# Altium footprint library Connector_Audio.PcbLib: 212 footprints (part 3 of 14)
Each footprint in its own frame and in the unit in brackets; x right, y up, seen from the top. Pads: shape width x height; smd on the part's side, far side on the other; paste and mask are expansions set on the pad; w line width, h text height; cw(c..) or ccw(c..) is an arc to the next point about the centre after c.
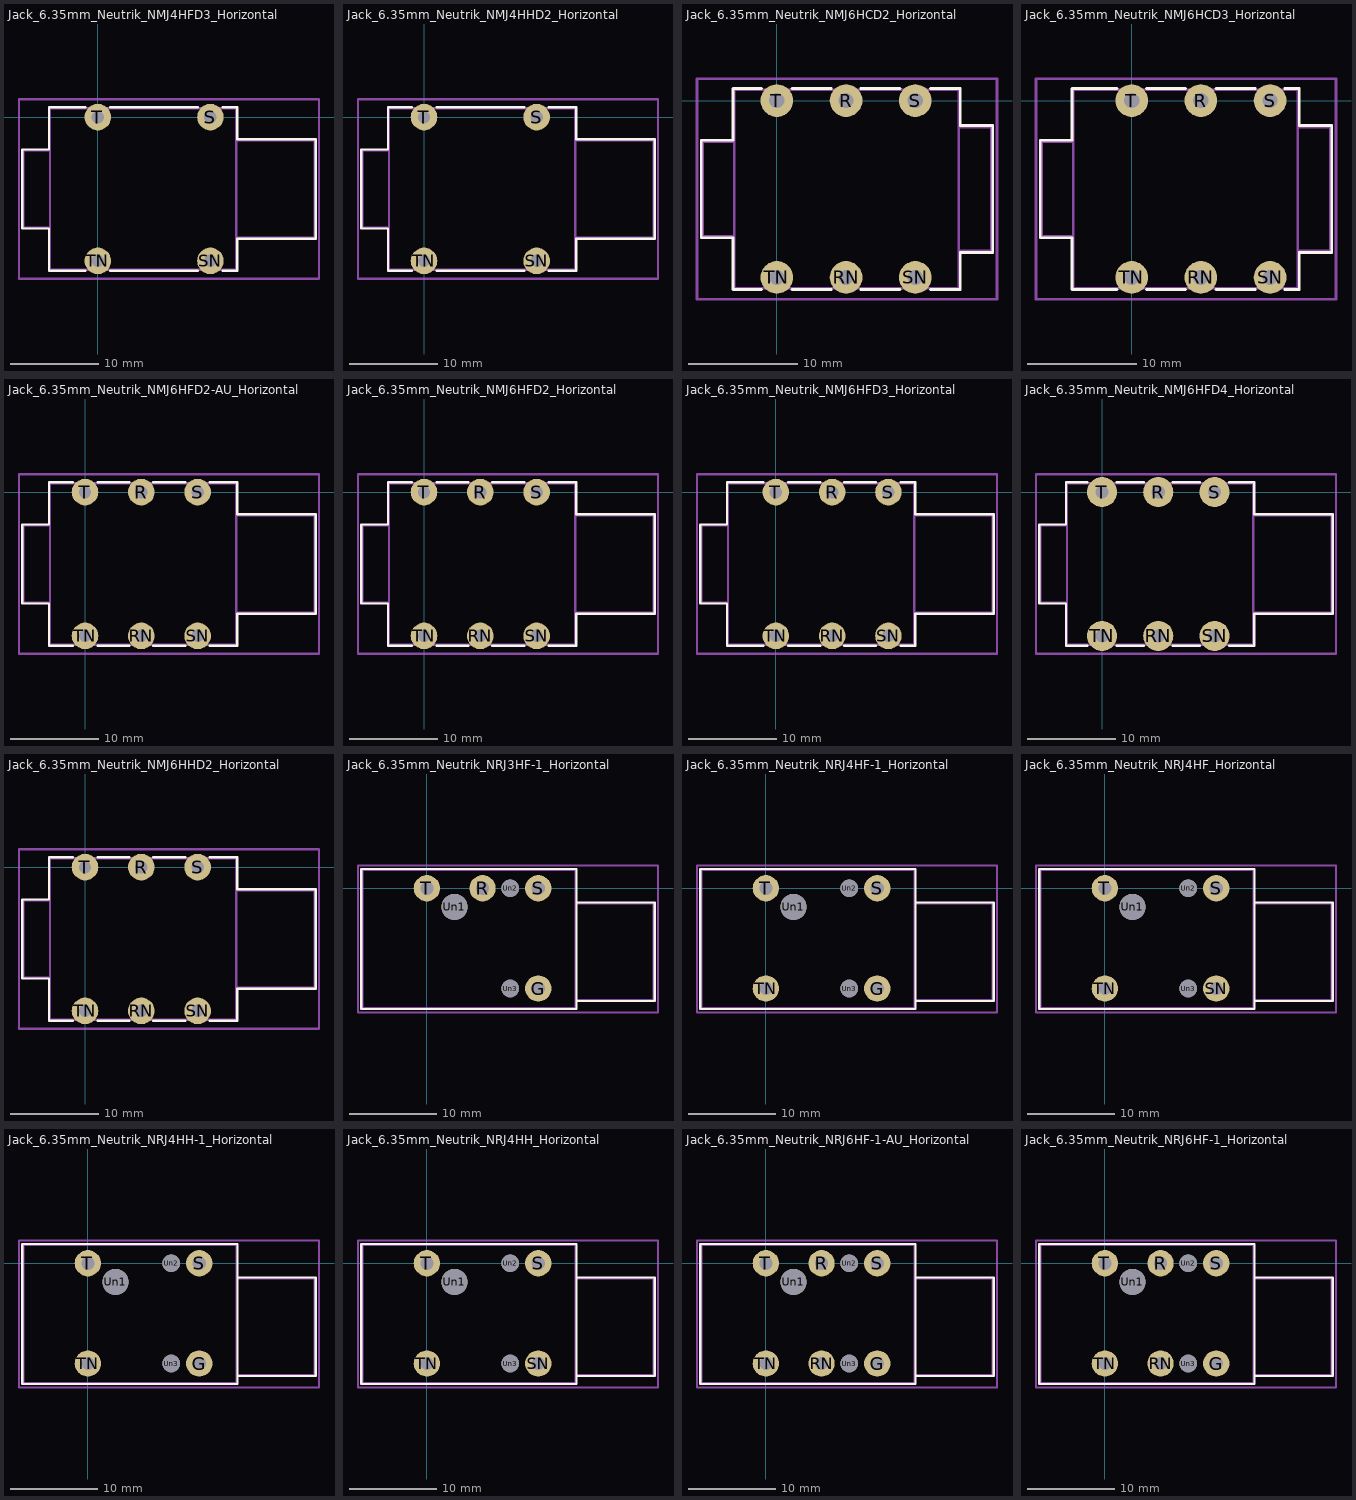
[diagram p2: the footprints below, top view; thin cyan lines are the x and y axes]

## Jack_6.35mm_Neutrik_NMJ4HFD3_Horizontal [mm]
pads (4):
  round 3 hole 1.4: S(12.7,0) SN(12.7,-16.23) T(0,0) TN(0,-16.23)
F.SilkS:
  lines w0.254: -8.52,-12.585 -5.52,-12.585 -5.52,-17.335 -1.4,-17.335 ; -8.52,-12.545 -8.52,-3.645 -5.52,-3.645 -5.52,1.105 -1.4,1.105 ; 1.4,-17.335 11.3,-17.335 ; 1.4,1.105 11.3,1.105 ; 14.1,-17.335 15.72,-17.335 15.72,-13.735 24.57,-13.735 24.57,-2.495 15.72,-2.495 15.72,1.105 14.1,1.105
Top Assembly:
  lines w0.254: -5.4,-12.465 -8.4,-12.465 -8.4,-3.765 -5.4,-3.765 ; 15.6,-13.615 24.45,-13.615 24.45,-2.615 15.6,-2.615 ; -5.4,-17.215 15.6,-17.215 15.6,0.985 -5.4,0.985 -5.4,-17.215
  text "'.Designator'" at 2.303,-8.955 h1
Top Courtyard:
  lines w0.254: -8.9,-18.23 24.95,-18.23 24.95,2 -8.9,2 -8.9,-18.23
Top Designator:
  text ".Designator" at 0.407,-8.623 h1.52

## Jack_6.35mm_Neutrik_NMJ4HHD2_Horizontal [mm]
pads (4):
  round 3 hole 1.4: S(12.7,0) SN(12.7,-16.23) T(0,0) TN(0,-16.23)
F.SilkS:
  lines w0.254: -7.07,-12.585 -4.07,-12.585 -4.07,-17.335 -1.35,-17.335 ; -7.07,-12.545 -7.07,-3.645 -4.07,-3.645 -4.07,1.105 -1.35,1.105 ; 1.4,-17.335 11.3,-17.335 ; 1.4,1.105 11.3,1.105 ; 14.05,-17.335 17.17,-17.335 17.17,-13.735 26.02,-13.735 26.02,-2.495 17.17,-2.495 17.17,1.105 14.05,1.105
Top Assembly:
  lines w0.254: -3.95,-12.465 -6.95,-12.465 -6.95,-3.765 -3.95,-3.765 ; 17.05,-13.615 25.9,-13.615 25.9,-2.615 17.05,-2.615 ; -3.95,-17.215 17.05,-17.215 17.05,0.985 -3.95,0.985 -3.95,-17.215
  text "'.Designator'" at 2.303,-8.955 h1
Top Courtyard:
  lines w0.254: -7.45,-18.23 26.4,-18.23 26.4,2 -7.45,2 -7.45,-18.23
Top Designator:
  text ".Designator" at 1.857,-8.623 h1.52

## Jack_6.35mm_Neutrik_NMJ6HCD2_Horizontal [mm]
pads (6):
  round 3 hole 1.4: R(6.35,0) RN(6.35,-16.23) S(12.7,0) SN(12.7,-16.23) T(0,0) TN(0,-16.23)
F.SilkS:
  lines w0.254: -6.95,-12.585 -4.03,-12.585 -4.03,-17.335 -1.4,-17.335 ; -6.95,-12.545 -6.95,-3.645 -4.03,-3.645 -4.03,1.105 -1.4,1.105 ; 1.4,-17.335 5,-17.335 ; 1.4,1.105 5,1.105 ; 7.7,-17.335 11.3,-17.335 ; 7.7,1.105 11.3,1.105 ; 14.1,-17.335 16.82,-17.335 16.82,-13.935 19.82,-13.935 19.82,-2.295 16.82,-2.295 16.82,1.105 14.1,1.105
Top Assembly:
  lines w0.254: -3.91,-12.465 -6.83,-12.465 -6.83,-3.765 -3.91,-3.765 ; 16.7,-13.815 19.7,-13.815 19.7,-2.415 16.7,-2.415 ; -3.91,-17.215 16.7,-17.215 16.7,0.985 -3.91,0.985 -3.91,-17.215
  text "'.Designator'" at 2.303,-8.955 h1
Top Courtyard:
  lines w0.254: -7.33,-18.23 20.2,-18.23 20.2,2 -7.33,2 -7.33,-18.23
Top Designator:
  text ".Designator" at -1.183,-8.623 h1.52

## Jack_6.35mm_Neutrik_NMJ6HCD3_Horizontal [mm]
pads (6):
  round 3 hole 1.4: R(6.35,0) RN(6.35,-16.23) S(12.7,0) SN(12.7,-16.23) T(0,0) TN(0,-16.23)
F.SilkS:
  lines w0.254: -8.4,-12.585 -5.48,-12.585 -5.48,-17.335 -1.35,-17.335 ; -8.4,-12.545 -8.4,-3.645 -5.48,-3.645 -5.48,1.105 -1.35,1.105 ; 1.35,-17.335 4.95,-17.335 ; 1.35,1.105 4.95,1.105 ; 7.75,-17.335 11.35,-17.335 ; 7.75,1.105 11.35,1.105 ; 14.05,-17.335 15.37,-17.335 15.37,-13.935 18.37,-13.935 18.37,-2.295 15.37,-2.295 15.37,1.105 14.05,1.105
Top Assembly:
  lines w0.254: -5.36,-12.465 -8.28,-12.465 -8.28,-3.765 -5.36,-3.765 ; 15.25,-13.815 18.25,-13.815 18.25,-2.415 15.25,-2.415 ; -5.36,-17.215 15.25,-17.215 15.25,0.985 -5.36,0.985 -5.36,-17.215
  text "'.Designator'" at 2.303,-8.955 h1
Top Courtyard:
  lines w0.254: -8.78,-18.23 18.75,-18.23 18.75,2 -8.78,2 -8.78,-18.23
Top Designator:
  text ".Designator" at -2.633,-8.623 h1.52

## Jack_6.35mm_Neutrik_NMJ6HFD2-AU_Horizontal [mm]
pads (6):
  round 3 hole 1.4: R(6.35,0) RN(6.35,-16.23) S(12.7,0) SN(12.7,-16.23) T(0,0) TN(0,-16.23)
F.SilkS:
  lines w0.254: -7.07,-12.585 -4.07,-12.585 -4.07,-17.335 -1.35,-17.335 ; -7.07,-12.545 -7.07,-3.645 -4.07,-3.645 -4.07,1.105 -1.35,1.105 ; 1.4,-17.335 5,-17.335 ; 1.4,1.105 5,1.105 ; 7.7,-17.335 11.3,-17.335 ; 7.7,1.105 11.3,1.105 ; 14.05,-17.335 17.17,-17.335 17.17,-13.735 26.02,-13.735 26.02,-2.495 17.17,-2.495 17.17,1.105 14.05,1.105
Top Assembly:
  lines w0.254: -3.95,-12.465 -6.95,-12.465 -6.95,-3.765 -3.95,-3.765 ; 17.05,-13.615 25.9,-13.615 25.9,-2.615 17.05,-2.615 ; -3.95,-17.215 17.05,-17.215 17.05,0.985 -3.95,0.985 -3.95,-17.215
  text "'.Designator'" at 2.303,-8.955 h1
Top Courtyard:
  lines w0.254: -7.45,-18.23 26.4,-18.23 26.4,2 -7.45,2 -7.45,-18.23
Top Designator:
  text ".Designator" at 1.857,-8.623 h1.52

## Jack_6.35mm_Neutrik_NMJ6HFD2_Horizontal [mm]
pads (6):
  round 3 hole 1.4: R(6.35,0) RN(6.35,-16.23) S(12.7,0) SN(12.7,-16.23) T(0,0) TN(0,-16.23)
F.SilkS:
  lines w0.254: -7.07,-12.585 -4.07,-12.585 -4.07,-17.335 -1.35,-17.335 ; -7.07,-12.545 -7.07,-3.645 -4.07,-3.645 -4.07,1.105 -1.35,1.105 ; 1.4,-17.335 5,-17.335 ; 1.4,1.105 5,1.105 ; 7.7,-17.335 11.3,-17.335 ; 7.7,1.105 11.3,1.105 ; 14.05,-17.335 17.17,-17.335 17.17,-13.735 26.02,-13.735 26.02,-2.495 17.17,-2.495 17.17,1.105 14.05,1.105
Top Assembly:
  lines w0.254: -3.95,-12.465 -6.95,-12.465 -6.95,-3.765 -3.95,-3.765 ; 17.05,-13.615 25.9,-13.615 25.9,-2.615 17.05,-2.615 ; -3.95,-17.215 17.05,-17.215 17.05,0.985 -3.95,0.985 -3.95,-17.215
  text "'.Designator'" at 2.303,-8.955 h1
Top Courtyard:
  lines w0.254: -7.45,-18.23 26.4,-18.23 26.4,2 -7.45,2 -7.45,-18.23
Top Designator:
  text ".Designator" at 1.857,-8.623 h1.52

## Jack_6.35mm_Neutrik_NMJ6HFD3_Horizontal [mm]
pads (6):
  round 3 hole 1.4: R(6.35,0) RN(6.35,-16.23) S(12.7,0) SN(12.7,-16.23) T(0,0) TN(0,-16.23)
F.SilkS:
  lines w0.254: -8.52,-12.585 -5.52,-12.585 -5.52,-17.335 -1.4,-17.335 ; -8.52,-12.545 -8.52,-3.645 -5.52,-3.645 -5.52,1.105 -1.4,1.105 ; 1.4,-17.335 5,-17.335 ; 1.4,1.105 5,1.105 ; 7.7,-17.335 11.3,-17.335 ; 7.7,1.105 11.3,1.105 ; 14.1,-17.335 15.72,-17.335 15.72,-13.735 24.57,-13.735 24.57,-2.495 15.72,-2.495 15.72,1.105 14.1,1.105
Top Assembly:
  lines w0.254: -5.4,-12.465 -8.4,-12.465 -8.4,-3.765 -5.4,-3.765 ; 15.6,-13.615 24.45,-13.615 24.45,-2.615 15.6,-2.615 ; -5.4,-17.215 15.6,-17.215 15.6,0.985 -5.4,0.985 -5.4,-17.215
  text "'.Designator'" at 2.303,-8.955 h1
Top Courtyard:
  lines w0.254: -8.9,-18.23 24.95,-18.23 24.95,2 -8.9,2 -8.9,-18.23
Top Designator:
  text ".Designator" at 0.407,-8.623 h1.52

## Jack_6.35mm_Neutrik_NMJ6HFD4_Horizontal [mm]
pads (6):
  round 3.4 hole 1.5: R(6.35,0) RN(6.35,-16.23) S(12.7,0) SN(12.7,-16.23) T(0,0) TN(0,-16.23)
F.SilkS:
  lines w0.254: -7.07,-12.585 -4.07,-12.585 -4.07,-17.335 -1.65,-17.335 ; -7.07,-12.545 -7.07,-3.645 -4.07,-3.645 -4.07,1.105 -1.65,1.105 ; 1.65,-17.335 4.75,-17.335 ; 1.65,1.105 4.75,1.105 ; 7.95,-17.335 11.05,-17.335 ; 7.95,1.105 11.05,1.105 ; 14.35,-17.335 17.17,-17.335 17.17,-13.735 26.02,-13.735 26.02,-2.495 17.17,-2.495 17.17,1.105 14.35,1.105
Top Assembly:
  lines w0.254: -3.95,-12.465 -6.95,-12.465 -6.95,-3.765 -3.95,-3.765 ; 17.05,-13.615 25.9,-13.615 25.9,-2.615 17.05,-2.615 ; -3.95,-17.215 -3.95,0.985 17.05,0.985 17.05,-17.215 -3.95,-17.215
  text "'.Designator'" at 2.303,-8.955 h1
Top Courtyard:
  lines w0.254: -7.45,-18.23 -7.45,2 26.4,2 26.4,-18.23 -7.45,-18.23
Top Designator:
  text ".Designator" at 1.857,-8.623 h1.52

## Jack_6.35mm_Neutrik_NMJ6HHD2_Horizontal [mm]
pads (6):
  round 3 hole 1.4: R(6.35,0) RN(6.35,-16.23) S(12.7,0) SN(12.7,-16.23) T(0,0) TN(0,-16.23)
F.SilkS:
  lines w0.254: -7.07,-12.585 -4.07,-12.585 -4.07,-17.335 -1.35,-17.335 ; -7.07,-12.545 -7.07,-3.645 -4.07,-3.645 -4.07,1.105 -1.35,1.105 ; 1.4,-17.335 5,-17.335 ; 1.4,1.105 5,1.105 ; 7.7,-17.335 11.3,-17.335 ; 7.7,1.105 11.3,1.105 ; 14.05,-17.335 17.17,-17.335 17.17,-13.735 26.02,-13.735 26.02,-2.495 17.17,-2.495 17.17,1.105 14.05,1.105
Top Assembly:
  lines w0.254: -3.95,-12.465 -6.95,-12.465 -6.95,-3.765 -3.95,-3.765 ; 17.05,-13.615 25.9,-13.615 25.9,-2.615 17.05,-2.615 ; -3.95,-17.215 17.05,-17.215 17.05,0.985 -3.95,0.985 -3.95,-17.215
  text "'.Designator'" at 2.303,-8.955 h1
Top Courtyard:
  lines w0.254: -7.45,-18.23 26.4,-18.23 26.4,2 -7.45,2 -7.45,-18.23
Top Designator:
  text ".Designator" at 1.857,-8.623 h1.52

## Jack_6.35mm_Neutrik_NRJ3HF-1_Horizontal [mm]
pads (7):
  round 3 hole 1.5: G(12.7,-11.43) R(6.35,0) S(12.7,0) T(0,0)
  round 3 hole 3: Un1(3.15,-2.13)
  round 2 hole 2: Un2(9.5,0) Un3(9.5,-11.43)
F.SilkS:
  lines w0.254: 17.07,-12.85 25.97,-12.85 25.97,-1.61 17.07,-1.61 ; -7.47,-13.78 17.07,-13.78 17.07,2.21 -7.47,2.21 -7.47,-13.78
Top Assembly:
  lines w0.254: 16.95,-12.73 25.85,-12.73 25.85,-1.73 16.95,-1.73 ; -7.35,-13.66 16.95,-13.66 16.95,2.09 -7.35,2.09 -7.35,-13.66
  text "'.Designator'" at 2.303,-6.555 h1
Top Courtyard:
  lines w0.254: -7.85,-14.16 26.35,-14.16 26.35,2.59 -7.85,2.59 -7.85,-14.16
Top Designator:
  text ".Designator" at 1.632,-6.293 h1.52
Dwgs.User:
  lines w0.254: 16.95,-13.66 16.95,2.09

## Jack_6.35mm_Neutrik_NRJ4HF-1_Horizontal [mm]
pads (7):
  round 3 hole 1.5: G(12.7,-11.43) S(12.7,0) T(0,0) TN(0,-11.43)
  round 3 hole 3: Un1(3.15,-2.13)
  round 2 hole 2: Un2(9.5,0) Un3(9.5,-11.43)
F.SilkS:
  lines w0.254: 17.07,-12.85 25.97,-12.85 25.97,-1.61 17.07,-1.61 ; -7.47,-13.78 -7.47,2.21 17.07,2.21 17.07,-13.78 -7.47,-13.78
Top Assembly:
  lines w0.254: 16.95,-12.73 25.85,-12.73 25.85,-1.73 16.95,-1.73 ; -7.35,-13.66 -7.35,2.09 16.95,2.09 16.95,-13.66 -7.35,-13.66
  text "'.Designator'" at 2.303,-6.555 h1
Top Courtyard:
  lines w0.254: -7.85,-14.16 -7.85,2.59 26.35,2.59 26.35,-14.16 -7.85,-14.16
Top Designator:
  text ".Designator" at 1.632,-6.293 h1.52
Dwgs.User:
  lines w0.254: 16.95,-13.66 16.95,2.09

## Jack_6.35mm_Neutrik_NRJ4HF_Horizontal [mm]
pads (7):
  round 3 hole 1.5: S(12.7,0) SN(12.7,-11.43) T(0,0) TN(0,-11.43)
  round 3 hole 3: Un1(3.15,-2.13)
  round 2 hole 2: Un2(9.5,0) Un3(9.5,-11.43)
F.SilkS:
  lines w0.254: 17.07,-12.85 25.97,-12.85 25.97,-1.61 17.07,-1.61 ; -7.47,-13.78 17.07,-13.78 17.07,2.21 -7.47,2.21 -7.47,-13.78
Top Assembly:
  lines w0.254: 16.95,-12.73 25.85,-12.73 25.85,-1.73 16.95,-1.73 ; -7.35,-13.66 16.95,-13.66 16.95,2.09 -7.35,2.09 -7.35,-13.66
  text "'.Designator'" at 2.303,-6.555 h1
Top Courtyard:
  lines w0.254: -7.85,-14.16 26.35,-14.16 26.35,2.59 -7.85,2.59 -7.85,-14.16
Top Designator:
  text ".Designator" at 1.632,-6.293 h1.52
Dwgs.User:
  lines w0.254: 16.95,-13.66 16.95,2.09

## Jack_6.35mm_Neutrik_NRJ4HH-1_Horizontal [mm]
pads (7):
  round 3 hole 1.5: G(12.7,-11.43) S(12.7,0) T(0,0) TN(0,-11.43)
  round 3 hole 3: Un1(3.15,-2.13)
  round 2 hole 2: Un2(9.5,0) Un3(9.5,-11.43)
F.SilkS:
  lines w0.254: 17.07,-12.85 25.97,-12.85 25.97,-1.61 17.07,-1.61 ; -7.47,-13.78 17.07,-13.78 17.07,2.21 -7.47,2.21 -7.47,-13.78
Top Assembly:
  lines w0.254: 16.95,-12.73 25.85,-12.73 25.85,-1.73 16.95,-1.73 ; -7.35,-13.66 16.95,-13.66 16.95,2.09 -7.35,2.09 -7.35,-13.66
  text "'.Designator'" at 2.303,-6.555 h1
Top Courtyard:
  lines w0.254: -7.85,-14.16 26.35,-14.16 26.35,2.59 -7.85,2.59 -7.85,-14.16
Top Designator:
  text ".Designator" at 1.632,-6.293 h1.52
Dwgs.User:
  lines w0.254: 16.95,-13.66 16.95,2.09

## Jack_6.35mm_Neutrik_NRJ4HH_Horizontal [mm]
pads (7):
  round 3 hole 1.5: S(12.7,0) SN(12.7,-11.43) T(0,0) TN(0,-11.43)
  round 3 hole 3: Un1(3.15,-2.13)
  round 2 hole 2: Un2(9.5,0) Un3(9.5,-11.43)
F.SilkS:
  lines w0.254: 17.07,-12.85 25.97,-12.85 25.97,-1.61 17.07,-1.61 ; -7.47,-13.78 17.07,-13.78 17.07,2.21 -7.47,2.21 -7.47,-13.78
Top Assembly:
  lines w0.254: 16.95,-12.73 25.85,-12.73 25.85,-1.73 16.95,-1.73 ; -7.35,-13.66 16.95,-13.66 16.95,2.09 -7.35,2.09 -7.35,-13.66
  text "'.Designator'" at 2.303,-6.555 h1
Top Courtyard:
  lines w0.254: -7.85,-14.16 26.35,-14.16 26.35,2.59 -7.85,2.59 -7.85,-14.16
Top Designator:
  text ".Designator" at 1.632,-6.293 h1.52
Dwgs.User:
  lines w0.254: 16.95,-13.66 16.95,2.09

## Jack_6.35mm_Neutrik_NRJ6HF-1-AU_Horizontal [mm]
pads (9):
  round 3 hole 1.5: G(12.7,-11.43) R(6.35,0) RN(6.35,-11.43) S(12.7,0) T(0,0) TN(0,-11.43)
  round 3 hole 3: Un1(3.15,-2.13)
  round 2 hole 2: Un2(9.5,0) Un3(9.5,-11.43)
F.SilkS:
  lines w0.254: 17.07,-12.85 25.97,-12.85 25.97,-1.61 17.07,-1.61 ; -7.47,-13.78 17.07,-13.78 17.07,2.21 -7.47,2.21 -7.47,-13.78
Top Assembly:
  lines w0.254: 16.95,-12.73 25.85,-12.73 25.85,-1.73 16.95,-1.73 ; -7.35,-13.66 16.95,-13.66 16.95,2.09 -7.35,2.09 -7.35,-13.66
  text "'.Designator'" at 2.303,-6.555 h1
Top Courtyard:
  lines w0.254: -7.85,-14.16 26.35,-14.16 26.35,2.59 -7.85,2.59 -7.85,-14.16
Top Designator:
  text ".Designator" at 1.632,-6.293 h1.52
Dwgs.User:
  lines w0.254: 16.95,-13.66 16.95,2.09

## Jack_6.35mm_Neutrik_NRJ6HF-1_Horizontal [mm]
pads (9):
  round 3 hole 1.5: G(12.7,-11.43) R(6.35,0) RN(6.35,-11.43) S(12.7,0) T(0,0) TN(0,-11.43)
  round 3 hole 3: Un1(3.15,-2.13)
  round 2 hole 2: Un2(9.5,0) Un3(9.5,-11.43)
F.SilkS:
  lines w0.254: 17.07,-12.85 25.97,-12.85 25.97,-1.61 17.07,-1.61 ; -7.47,-13.78 17.07,-13.78 17.07,2.21 -7.47,2.21 -7.47,-13.78
Top Assembly:
  lines w0.254: 16.95,-12.73 25.85,-12.73 25.85,-1.73 16.95,-1.73 ; -7.35,-13.66 16.95,-13.66 16.95,2.09 -7.35,2.09 -7.35,-13.66
  text "'.Designator'" at 2.303,-6.555 h1
Top Courtyard:
  lines w0.254: -7.85,-14.16 26.35,-14.16 26.35,2.59 -7.85,2.59 -7.85,-14.16
Top Designator:
  text ".Designator" at 1.632,-6.293 h1.52
Dwgs.User:
  lines w0.254: 16.95,-13.66 16.95,2.09